# EAGLE library part R2R_DAC8_4610X-R2R-103LF (library 07-Retrocomputing)
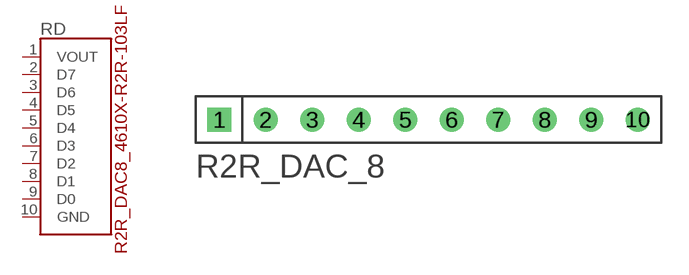
[diagram p22: symbol with the pads of R2R_DAC_8BIT; footprint R2R_DAC_8BIT]

Designator prefix RD

## R2R_DAC8_4610X-R2R-103LF  [R2R_DAC_8BIT]
1  VOUT
2  D7
3  D6
4  D5
5  D4
6  D3
7  D2
8  D1
9  D0
10  GND

## Footprint R2R_DAC_8BIT (pad centres in mm)
drill 0.8 square: 1 -11.43,0
drill 0.8 round: 2 -8.89,0; 3 -6.35,0; 4 -3.81,0; 5 -1.27,0; 6 1.27,0; 7 3.81,0; 8 6.35,0; 9 8.89,0; 10 11.43,0